# Altium footprint library Würth-Elektronik.PcbLib: 79 footprints (part 4 of 5)
Each footprint in its own frame and in the unit in brackets; x right, y up, seen from the top. Pads: shape width x height; smd on the part's side, far side on the other; paste and mask are expansions set on the pad; w line width, h text height; cw(c..) or ccw(c..) is an arc to the next point about the centre after c.
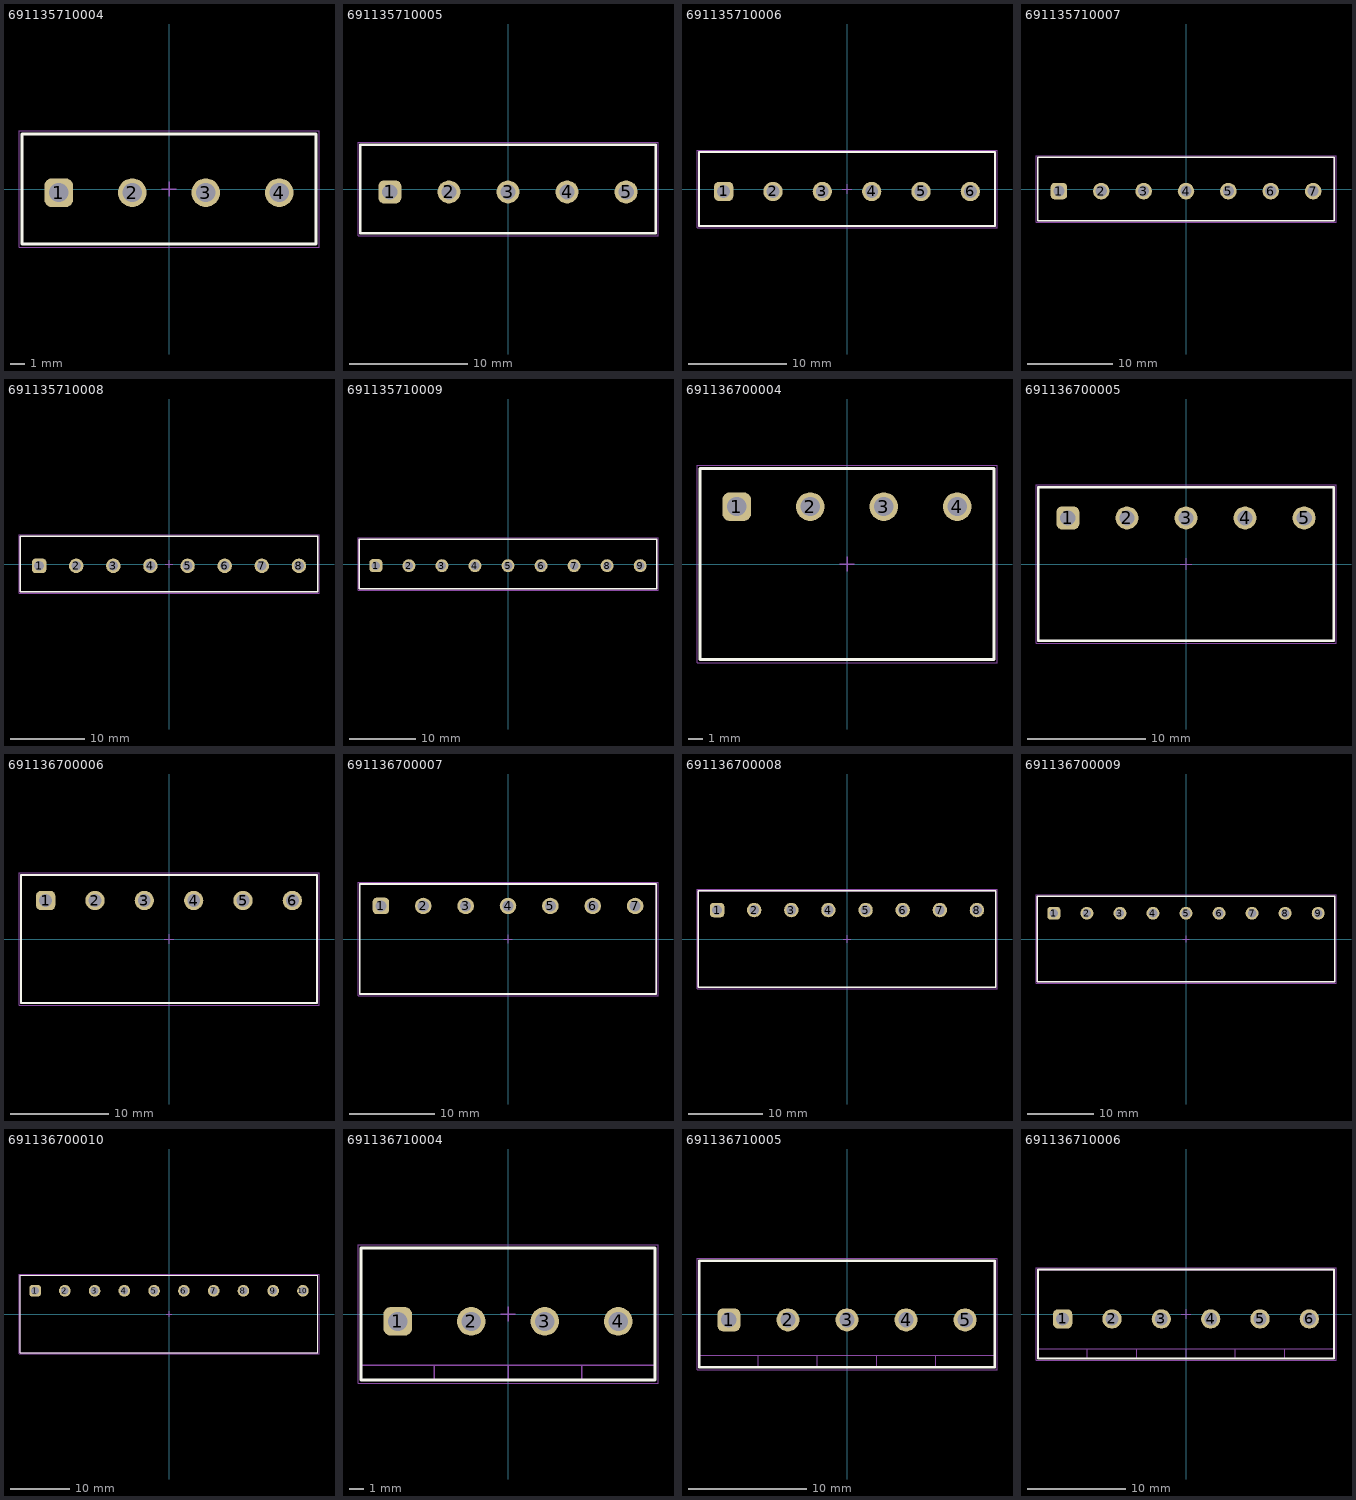
[diagram p3: the footprints below, top view; thin cyan lines are the x and y axes]

## 691135710004 [mm] "Serie 1357 - 5.00 mm_4 pins"
height 10
pads (4):
  rrect50% 1.95x1.95 hole 1.3 paste-2539.97: 1(-7.5,-0.25)
  round 1.95 hole 1.3 paste-2539.97: 2(-2.5,-0.25) 3(2.5,-0.25) 4(7.5,-0.25)
Top Overlay:
  lines w0.2: -10,-3.75 -10,3.75 10,3.75 10,-3.75 -10,-3.75
Top Courtyard:
  lines w0.05: -10.2,-3.95 10.2,-3.95 10.2,3.95 -10.2,3.95 -10.2,-3.95
Top 3D Body:
  lines w0.1: -10,-3.75 -10,3.75 10,3.75 10,-3.75 -10,-3.75
Top Assembly:
  lines w0.1: -10,-3.75 10,-3.75 10,3.75 -10,3.75 -10,-3.75
Top Designator:
  text ".Designator" at -3.647,-0.357 h1
Top Component Center:
  lines w0.1: -0.5,0 0.5,0 ; 0,-0.5 0,0.5
3D body "691135710004.stp": height 10.1, standoff -3.9, extent -10,-3.75 10,3.75

## 691135710005 [mm] "Serie 1357 - 5.00 mm_5 pins"
height 10
pads (5):
  rrect50% 1.95x1.95 hole 1.3 paste-2539.97: 1(-10,-0.25)
  round 1.95 hole 1.3 paste-2539.97: 2(-5,-0.25) 3(0,-0.25) 4(5,-0.25) 5(10,-0.25)
Top Overlay:
  lines w0.2: -12.5,-3.75 12.5,-3.75 12.5,3.75 -12.5,3.75 -12.5,-3.75
Top Courtyard:
  lines w0.05: -12.7,-3.95 -12.7,3.95 12.7,3.95 12.7,-3.95 -12.7,-3.95
Top 3D Body:
  lines w0.1: -12.5,-3.75 12.5,-3.75 12.5,3.75 -12.5,3.75 -12.5,-3.75
Top Assembly:
  lines w0.1: -12.5,-3.75 -12.5,3.75 12.5,3.75 12.5,-3.75 -12.5,-3.75
Top Designator:
  text ".Designator" at -3.647,-0.357 h1
Top Component Center:
  lines w0.1: -0.5,0 0.5,0 ; 0,-0.5 0,0.5
3D body "691135710005.stp": height 10.1, standoff -3.9, extent -12.5,-3.75 12.5,3.75

## 691135710006 [mm] "Serie 1357 - 5.00 mm_6 pins"
height 10
pads (6):
  rrect50% 1.95x1.95 hole 1.3 paste-2539.97: 1(-12.5,-0.25)
  round 1.95 hole 1.3 paste-2539.97: 2(-7.5,-0.25) 3(-2.5,-0.25) 4(2.5,-0.25) 5(7.5,-0.25) 6(12.5,-0.25)
Top Overlay:
  lines w0.2: -15,-3.75 -15,3.75 15,3.75 15,-3.75 -15,-3.75
Top Courtyard:
  lines w0.05: -15.2,-3.95 15.2,-3.95 15.2,3.95 -15.2,3.95 -15.2,-3.95
Top 3D Body:
  lines w0.1: -15,-3.75 -15,3.75 15,3.75 15,-3.75 -15,-3.75
Top Assembly:
  lines w0.1: -15,-3.75 15,-3.75 15,3.75 -15,3.75 -15,-3.75
Top Designator:
  text ".Designator" at -3.647,-0.357 h1
Top Component Center:
  lines w0.1: -0.5,0 0.5,0 ; 0,-0.5 0,0.5
3D body "691135710006.stp": height 10.1, standoff -3.9, extent -15,-3.75 15,3.75

## 691135710007 [mm] "Serie 1357 - 5.00 mm_7 pins"
height 10
pads (7):
  rrect50% 1.95x1.95 hole 1.3 paste-2539.97: 1(-15,-0.25)
  round 1.95 hole 1.3 paste-2539.97: 2(-10,-0.25) 3(-5,-0.25) 4(0,-0.25) 5(5,-0.25) 6(10,-0.25) 7(15,-0.25)
Top Overlay:
  lines w0.2: -17.5,-3.75 17.5,-3.75 17.5,3.75 -17.5,3.75 -17.5,-3.75
Top Courtyard:
  lines w0.05: -17.7,-3.95 -17.7,3.95 17.7,3.95 17.7,-3.95 -17.7,-3.95
Top 3D Body:
  lines w0.1: -17.5,-3.75 17.5,-3.75 17.5,3.75 -17.5,3.75 -17.5,-3.75
Top Assembly:
  lines w0.1: -17.5,-3.75 -17.5,3.75 17.5,3.75 17.5,-3.75 -17.5,-3.75
Top Designator:
  text ".Designator" at -3.647,-0.357 h1
Top Component Center:
  lines w0.1: -0.5,0 0.5,0 ; 0,-0.5 0,0.5
3D body "691135710007.stp": height 10.1, standoff -3.9, extent -17.5,-3.75 17.5,3.75

## 691135710008 [mm] "Serie 1357 - 5.00 mm_8 pins"
height 10
pads (8):
  rrect50% 1.95x1.95 hole 1.3 paste-2539.97: 1(-17.5,-0.25)
  round 1.95 hole 1.3 paste-2539.97: 2(-12.5,-0.25) 3(-7.5,-0.25) 4(-2.5,-0.25) 5(2.5,-0.25) 6(7.5,-0.25) 7(12.5,-0.25) 8(17.5,-0.25)
Top Overlay:
  lines w0.2: -20,-3.75 20,-3.75 20,3.75 -20,3.75 -20,-3.75
Top Courtyard:
  lines w0.05: -20.2,-3.95 -20.2,3.95 20.2,3.95 20.2,-3.95 -20.2,-3.95
Top 3D Body:
  lines w0.1: -20,-3.75 20,-3.75 20,3.75 -20,3.75 -20,-3.75
Top Assembly:
  lines w0.1: -20,-3.75 -20,3.75 20,3.75 20,-3.75 -20,-3.75
Top Designator:
  text ".Designator" at -3.647,-0.357 h1
Top Component Center:
  lines w0.1: -0.5,0 0.5,0 ; 0,-0.5 0,0.5
3D body "691135710008.stp": height 10.1, standoff -3.9, extent -20,-3.75 20,3.75

## 691135710009 [mm] "Serie 1357 - 5.00 mm_9 pins"
height 10
pads (9):
  rrect50% 1.95x1.95 hole 1.3 paste-2539.97: 1(-20,-0.25)
  round 1.95 hole 1.3 paste-2539.97: 2(-15,-0.25) 3(-10,-0.25) 4(-5,-0.25) 5(0,-0.25) 6(5,-0.25) 7(10,-0.25) 8(15,-0.25) 9(20,-0.25)
Top Overlay:
  lines w0.2: -22.5,-3.75 22.5,-3.75 22.5,3.75 -22.5,3.75 -22.5,-3.75
Top Courtyard:
  lines w0.05: -22.7,-3.95 -22.7,3.95 22.7,3.95 22.7,-3.95 -22.7,-3.95
Top 3D Body:
  lines w0.1: -22.5,-3.75 22.5,-3.75 22.5,3.75 -22.5,3.75 -22.5,-3.75
Top Assembly:
  lines w0.1: -22.5,-3.75 -22.5,3.75 22.5,3.75 22.5,-3.75 -22.5,-3.75
Top Designator:
  text ".Designator" at -3.647,-0.357 h1
Top Component Center:
  lines w0.1: -0.5,0 0.5,0 ; 0,-0.5 0,0.5
3D body "691135710009.stp": height 10.1, standoff -3.9, extent -22.5,-3.75 22.5,3.75

## 691136700004 [mm] "Serie 1367 - 5.00 mm _ 4 pins"
height 9
pads (4):
  rrect50% 1.95x1.95 hole 1.3: 1(-7.5,3.9)
  round 1.95 hole 1.3: 2(-2.5,3.9) 3(2.5,3.9) 4(7.5,3.9)
Top Overlay:
  lines w0.2: -10,-6.5 -10,6.5 10,6.5 10,-6.5 -10,-6.5
Top Courtyard:
  lines w0.05: -10.2,-6.7 -10.2,6.7 10.2,6.7 10.2,-6.7 -10.2,-6.7
Top 3D Body:
  lines w0.1: -10,-6.5 -10,6.5 10,6.5 10,-6.5 -10,-6.5
Top Assembly:
  lines w0.1: -10,-6.5 10,-6.5 10,6.5 -10,6.5 -10,-6.5
Top Designator:
  text ".Designator" at -3.647,-0.357 h1
Top Component Center:
  lines w0.1: -0.5,0 0.5,0 ; 0,-0.5 0,0.5
3D body "691136700004.stp": height 9.1, standoff -5.9, extent -10,-6.5 10,6.5

## 691136700005 [mm] "Serie 1367 - 5.00 mm _ 5 pins"
height 9
pads (5):
  rrect50% 1.95x1.95 hole 1.3: 1(-10,3.9)
  round 1.95 hole 1.3: 2(-5,3.9) 3(0,3.9) 4(5,3.9) 5(10,3.9)
Top Overlay:
  lines w0.2: -12.5,-6.5 -12.5,6.5 12.5,6.5 12.5,-6.5 -12.5,-6.5
Top Courtyard:
  lines w0.05: -12.7,-6.7 -12.7,6.7 12.7,6.7 12.7,-6.7 -12.7,-6.7
Top 3D Body:
  lines w0.1: -12.5,-6.5 -12.5,6.5 12.5,6.5 12.5,-6.5 -12.5,-6.5
Top Assembly:
  lines w0.1: -12.5,-6.5 12.5,-6.5 12.5,6.5 -12.5,6.5 -12.5,-6.5
Top Designator:
  text ".Designator" at -3.647,-0.357 h1
Top Component Center:
  lines w0.1: -0.5,0 0.5,0 ; 0,-0.5 0,0.5
3D body "691136700005.stp": height 9.1, standoff -5.9, extent -12.5,-6.5 12.5,6.5

## 691136700006 [mm] "Serie 1367 - 5.00 mm _ 6 pins"
height 9
pads (6):
  rrect50% 1.95x1.95 hole 1.3: 1(-12.5,3.9)
  round 1.95 hole 1.3: 2(-7.5,3.9) 3(-2.5,3.9) 4(2.5,3.9) 5(7.5,3.9) 6(12.5,3.9)
Top Overlay:
  lines w0.2: -15,-6.5 -15,6.5 15,6.5 15,-6.5 -15,-6.5
Top Courtyard:
  lines w0.05: -15.2,-6.7 -15.2,6.7 15.2,6.7 15.2,-6.7 -15.2,-6.7
Top 3D Body:
  lines w0.1: -15,-6.5 -15,6.5 15,6.5 15,-6.5 -15,-6.5
Top Assembly:
  lines w0.1: -15,-6.5 15,-6.5 15,6.5 -15,6.5 -15,-6.5
Top Designator:
  text ".Designator" at -3.647,-0.357 h1
Top Component Center:
  lines w0.1: -0.5,0 0.5,0 ; 0,-0.5 0,0.5
3D body "691136700006.stp": height 9.1, standoff -5.9, extent -15,-6.5 15,6.5

## 691136700007 [mm] "Serie 1367 - 5.00 mm _ 7 pins"
height 9
pads (7):
  rrect50% 1.95x1.95 hole 1.3: 1(-15,3.9)
  round 1.95 hole 1.3: 2(-10,3.9) 3(-5,3.9) 4(0,3.9) 5(5,3.9) 6(10,3.9) 7(15,3.9)
Top Overlay:
  lines w0.2: -17.5,-6.5 -17.5,6.5 17.5,6.5 17.5,-6.5 -17.5,-6.5
Top Courtyard:
  lines w0.05: -17.7,-6.7 -17.7,6.7 17.7,6.7 17.7,-6.7 -17.7,-6.7
Top 3D Body:
  lines w0.1: -17.5,-6.5 -17.5,6.5 17.5,6.5 17.5,-6.5 -17.5,-6.5
Top Assembly:
  lines w0.1: -17.5,-6.5 17.5,-6.5 17.5,6.5 -17.5,6.5 -17.5,-6.5
Top Designator:
  text ".Designator" at -3.647,-0.357 h1
Top Component Center:
  lines w0.1: -0.5,0 0.5,0 ; 0,-0.5 0,0.5
3D body "691136700007.stp": height 9.1, standoff -5.9, extent -17.5,-6.5 17.5,6.5

## 691136700008 [mm] "Serie 1367 - 5.00 mm _ 8 pins"
height 9
pads (8):
  rrect50% 1.95x1.95 hole 1.3: 1(-17.5,3.9)
  round 1.95 hole 1.3: 2(-12.5,3.9) 3(-7.5,3.9) 4(-2.5,3.9) 5(2.5,3.9) 6(7.5,3.9) 7(12.5,3.9) 8(17.5,3.9)
Top Overlay:
  lines w0.2: -20,-6.5 20,-6.5 20,6.5 -20,6.5 -20,-6.5
Top Courtyard:
  lines w0.05: -20.2,-6.7 20.2,-6.7 20.2,6.7 -20.2,6.7 -20.2,-6.7
Top 3D Body:
  lines w0.1: -20,-6.5 20,-6.5 20,6.5 -20,6.5 -20,-6.5
Top Assembly:
  lines w0.1: -20,-6.5 -20,6.5 20,6.5 20,-6.5 -20,-6.5
Top Designator:
  text ".Designator" at -3.647,-0.357 h1
Top Component Center:
  lines w0.1: -0.5,0 0.5,0 ; 0,-0.5 0,0.5
3D body "691136700008.stp": height 9.1, standoff -5.9, extent -20,-6.5 20,6.5

## 691136700009 [mm] "Serie 1367 - 5.00 mm _ 9 pins"
height 9
pads (9):
  rrect50% 1.95x1.95 hole 1.3: 1(-20,3.9)
  round 1.95 hole 1.3: 2(-15,3.9) 3(-10,3.9) 4(-5,3.9) 5(0,3.9) 6(5,3.9) 7(10,3.9) 8(15,3.9) 9(20,3.9)
Top Overlay:
  lines w0.2: -22.5,-6.5 22.5,-6.5 22.5,6.5 -22.5,6.5 -22.5,-6.5
Top Courtyard:
  lines w0.05: -22.7,-6.7 22.7,-6.7 22.7,6.7 -22.7,6.7 -22.7,-6.7
Top 3D Body:
  lines w0.1: -22.5,-6.5 22.5,-6.5 22.5,6.5 -22.5,6.5 -22.5,-6.5
Top Assembly:
  lines w0.1: -22.5,-6.5 -22.5,6.5 22.5,6.5 22.5,-6.5 -22.5,-6.5
Top Designator:
  text ".Designator" at -3.647,-0.357 h1
Top Component Center:
  lines w0.1: -0.5,0 0.5,0 ; 0,-0.5 0,0.5
3D body "691136700009.stp": height 9.1, standoff -5.9, extent -22.5,-6.5 22.5,6.5

## 691136700010 [mm] "Serie 1367 - 5.00 mm _ 10 pins"
height 9
pads (10):
  rrect50% 1.95x1.95 hole 1.3: 1(-22.5,3.9)
  round 1.95 hole 1.3: 2(-17.5,3.9) 3(-12.5,3.9) 4(-7.5,3.9) 5(-2.5,3.9) 6(2.5,3.9) 7(7.5,3.9) 8(12.5,3.9) 9(17.5,3.9) 10(22.5,3.9)
Top Overlay:
  lines w0.2: -25,-6.5 -25,6.5 25,6.5 25,-6.5 -25,-6.5
Top Courtyard:
  lines w0.05: -25.2,-6.7 -25.2,6.7 25.2,6.7 25.2,-6.7 -25.2,-6.7
Top 3D Body:
  lines w0.1: -25,-6.5 -25,6.5 25,6.5 25,-6.5 -25,-6.5
Top Assembly:
  lines w0.1: -25,-6.5 25,-6.5 25,6.5 -25,6.5 -25,-6.5
Top Designator:
  text ".Designator" at -3.647,-0.357 h1
Top Component Center:
  lines w0.1: -0.5,0 0.5,0 ; 0,-0.5 0,0.5
3D body "691136700010.stp": height 9.1, standoff -5.9, extent -25,-6.5 25,6.5

## 691136710004 [mm] "Serie 1367 - 5.00 mm _ 4 pins"
height 13
pads (4):
  rrect50% 1.95x1.95 hole 1.3: 1(-7.5,-0.5)
  round 1.95 hole 1.3: 2(-2.5,-0.5) 3(2.5,-0.5) 4(7.5,-0.5)
Top Overlay:
  lines w0.2: -10,-4.5 -10,4.5 10,4.5 10,-4.5 -10,-4.5
Top Courtyard:
  lines w0.05: -10.2,-4.7 10.2,-4.7 10.2,4.7 -10.2,4.7 -10.2,-4.7
Top 3D Body:
  lines w0.1: -10,-3.5 10,-3.5 ; -5,-4.5 -5,-3.5 ; 0,-4.5 0,-3.5 ; 5,-4.5 5,-3.5 ; -10,-4.5 -10,4.5 10,4.5 10,-4.5 -10,-4.5
Top Assembly:
  lines w0.1: -10,-3.5 10,-3.5 ; -5,-4.5 -5,-3.5 ; 0,-4.5 0,-3.5 ; 5,-4.5 5,-3.5 ; -10,-4.5 10,-4.5 10,4.5 -10,4.5 -10,-4.5
Top Designator:
  text ".Designator" at -3.647,-0.357 h1
Top Component Center:
  lines w0.1: -0.5,0 0.5,0 ; 0,-0.5 0,0.5
3D body "691136710004.stp": height 13.1, standoff -3.9, extent -10,-4.5 10,4.5

## 691136710005 [mm] "Serie 1367 - 5.00 mm _ 5 pins"
height 13
pads (5):
  rrect50% 1.95x1.95 hole 1.3: 1(-10,-0.5)
  round 1.95 hole 1.3: 2(-5,-0.5) 3(0,-0.5) 4(5,-0.5) 5(10,-0.5)
Top Overlay:
  lines w0.2: -12.5,-4.5 12.5,-4.5 12.5,4.5 -12.5,4.5 -12.5,-4.5
Top Courtyard:
  lines w0.05: -12.7,-4.7 -12.7,4.7 12.7,4.7 12.7,-4.7 -12.7,-4.7
Top 3D Body:
  lines w0.1: -12.5,-3.5 12.5,-3.5 ; -7.5,-4.5 -7.5,-3.5 ; -2.5,-4.5 -2.5,-3.5 ; 2.5,-4.5 2.5,-3.5 ; 7.5,-4.5 7.5,-3.5 ; -12.5,-4.5 12.5,-4.5 12.5,4.5 -12.5,4.5 -12.5,-4.5
Top Assembly:
  lines w0.1: -12.5,-3.5 12.5,-3.5 ; -7.5,-4.5 -7.5,-3.5 ; -2.5,-4.5 -2.5,-3.5 ; 2.5,-4.5 2.5,-3.5 ; 7.5,-4.5 7.5,-3.5 ; -12.5,-4.5 -12.5,4.5 12.5,4.5 12.5,-4.5 -12.5,-4.5
Top Designator:
  text ".Designator" at -3.647,-0.357 h1
Top Component Center:
  lines w0.1: -0.5,0 0.5,0 ; 0,-0.5 0,0.5
3D body "691136710005.stp": height 13.1, standoff -3.9, extent -12.5,-4.5 12.5,4.5

## 691136710006 [mm] "Serie 1367 - 5.00 mm _ 6 pins"
height 13
pads (6):
  rrect50% 1.95x1.95 hole 1.3: 1(-12.5,-0.5)
  round 1.95 hole 1.3: 2(-7.5,-0.5) 3(-2.5,-0.5) 4(2.5,-0.5) 5(7.5,-0.5) 6(12.5,-0.5)
Top Overlay:
  lines w0.2: -15,-4.5 15,-4.5 15,4.5 -15,4.5 -15,-4.5
Top Courtyard:
  lines w0.05: -15.2,-4.7 -15.2,4.7 15.2,4.7 15.2,-4.7 -15.2,-4.7
Top 3D Body:
  lines w0.1: -15,-3.5 15,-3.5 ; -10,-4.5 -10,-3.5 ; -5,-4.5 -5,-3.5 ; 0,-4.5 0,-3.5 ; 5,-4.5 5,-3.5 ; 10,-4.5 10,-3.5 ; -15,-4.5 15,-4.5 15,4.5 -15,4.5 -15,-4.5
Top Assembly:
  lines w0.1: -15,-3.5 15,-3.5 ; -10,-4.5 -10,-3.5 ; -5,-4.5 -5,-3.5 ; 0,-4.5 0,-3.5 ; 5,-4.5 5,-3.5 ; 10,-4.5 10,-3.5 ; -15,-4.5 -15,4.5 15,4.5 15,-4.5 -15,-4.5
Top Designator:
  text ".Designator" at -3.647,-0.357 h1
Top Component Center:
  lines w0.1: -0.5,0 0.5,0 ; 0,-0.5 0,0.5
3D body "691136710006.stp": height 13.1, standoff -3.9, extent -15,-4.5 15,4.5